# Altium schematic symbol library QS6J1TR.SchLib: 2 symbols
Pins are listed as number, name and electrical type; pins without a type are passive.

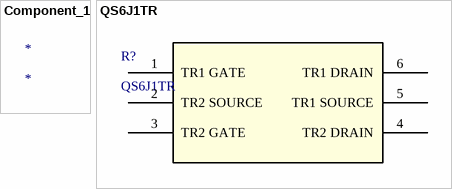
[diagram p0: symbols Component_1 to QS6J1TR]

## Component_1
designator *

## QS6J1TR
designator R?
No Description Available; Vendor: ROHM Semiconductor; Built_By: EMA_Matt; SourceLibrary: Rohm_2019-09-23; Manufacturer_Part_Number: QS6J1TR; Copyright: Copyright (C) 2018 Accelerated Designs. All rights reserved; RefDes: RefDes; Type: DEV
footprint TRANS_QS6_ROM
pins: 1 TR1 GATE, 2 TR2 SOURCE, 3 TR2 GATE, 4 TR2 DRAIN, 5 TR1 SOURCE, 6 TR1 DRAIN